# EAGLE library part PIC16F88 (library microchip-nuno)
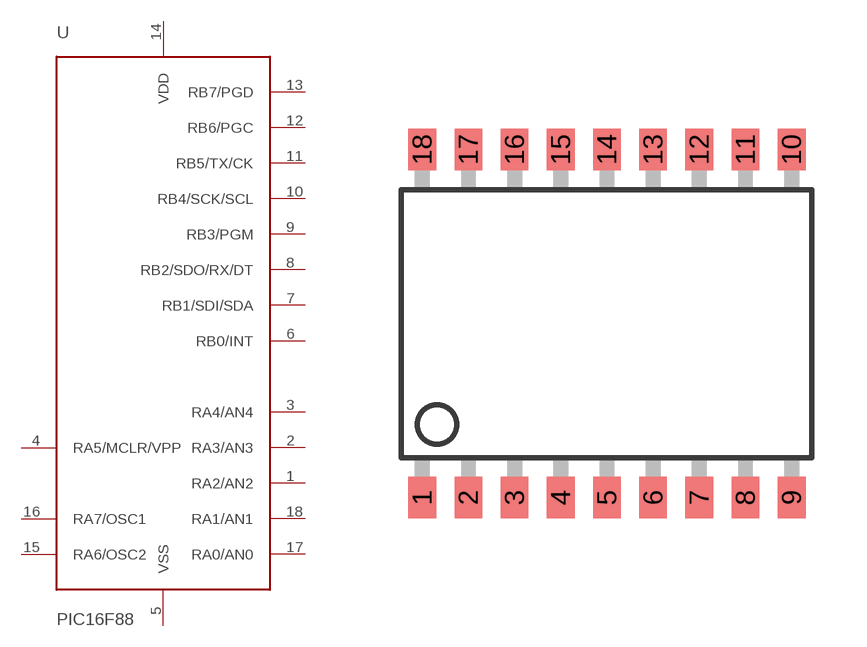
[diagram p2: symbol with the pads of SO-18W; footprint SO-18W]

Designator prefix -

## PIC16F88  [SO-18W]
1  RA2/AN2
2  RA3/AN3
3  RA4/AN4
4  RA5/MCLR/VPP  in
5  VSS  pwr
6  RB0/INT
7  RB1/SDI/SDA
8  RB2/SDO/RX/DT
9  RB3/PGM
10  RB4/SCK/SCL
11  RB5/TX/CK
12  RB6/PGC
13  RB7/PGD
14  VDD  pwr
15  RA6/OSC2
16  RA7/OSC1
17  RA0/AN0
18  RA1/AN1

## Footprint SO-18W (pad centres in mm)
smd 0.762 x 1.143: 1 -6.35,-4.788; 2 -5.08,-4.788; 3 -3.81,-4.788; 4 -2.54,-4.788; 5 -1.27,-4.788; 6 0,-4.788; 7 1.27,-4.788; 8 2.54,-4.788; 9 3.81,-4.788; 10 3.81,4.788; 11 2.54,4.788; 12 1.27,4.788; 13 0,4.788; 14 -1.27,4.788; 15 -2.54,4.788; 16 -3.81,4.788; 17 -5.08,4.788; 18 -6.35,4.788